# EAGLE library part PIC10(L)F320/322-? (library Gekkio-microchip)
6/8-Pin Flash-Based, 8-Bit Microcontrollers
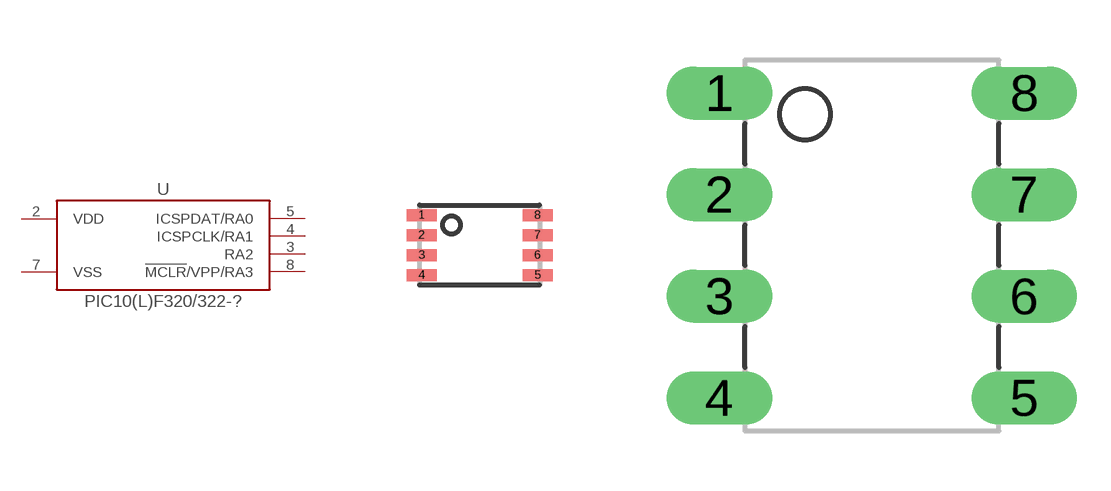
[diagram p3: symbol with the pads of DFN8(MC); footprints DFN8(MC), PDIP8(P/PA)]

Designator prefix U

## PIC10(L)F320/322-MC  [DFN8(MC)]
2  VDD  pwr
3  RA2
4  ICSPCLK/RA1
5  ICSPDAT/RA0
7  VSS  pwr
8  !MCLR!/VPP/RA3

## PIC10(L)F320/322-P  [PDIP8(P/PA)]
Pads as for DFN8(MC)

## PIC10(L)F320/322-OT  [SOT-23(CH/CHY/OT)]
1  ICSPDAT/RA0
2  VSS  pwr
3  ICSPCLK/RA1
4  RA2
5  VDD  pwr
6  !MCLR!/VPP/RA3

## Footprint DFN8(MC) (pad centres in mm)
DFN8 (MC) 8-Lead Plastic Dual Flat, No Lead Package (MC) - 2x3x0.9 mm Body [DFN] Not tested! Source: Microchip Packaging Specification, revision CE
smd 0.75 x 0.3: 1 -1.45,0.75; 2 -1.45,0.25; 3 -1.45,-0.25; 4 -1.45,-0.75; 5 1.45,-0.75; 6 1.45,-0.25; 7 1.45,0.25; 8 1.45,0.75

## Footprint PDIP8(P/PA) (pad centres in mm)
PDIP8 (P/PA) 8-Lead Plastic Dual In-Line (P) - 300 mil Body [PDIP] Not tested! Source: Microchip Packaging Specification, revision CE
drill 0.813 long: 1 -3.81,3.81; 2 -3.81,1.27; 3 -3.81,-1.27; 4 -3.81,-3.81; 5 3.81,-3.81; 6 3.81,-1.27; 7 3.81,1.27; 8 3.81,3.81

## Footprint SOT-23(CH/CHY/OT) (pad centres in mm)
SOT-23 (CH/CHY/OT) 6-Lead Plastic Small Outline Transistor (OT) [SOT-23] Not tested! Source: Microchip Packaging Specification, revision CE
smd 1.1 x 0.6: 1 -1.4,0.95; 2 -1.4,0; 3 -1.4,-0.95; 4 1.4,-0.95; 5 1.4,0; 6 1.4,0.95